# Altium integrated library Xilinx Spartan-3 FPGA.IntLib: 1115 symbols (part 2 of 7)
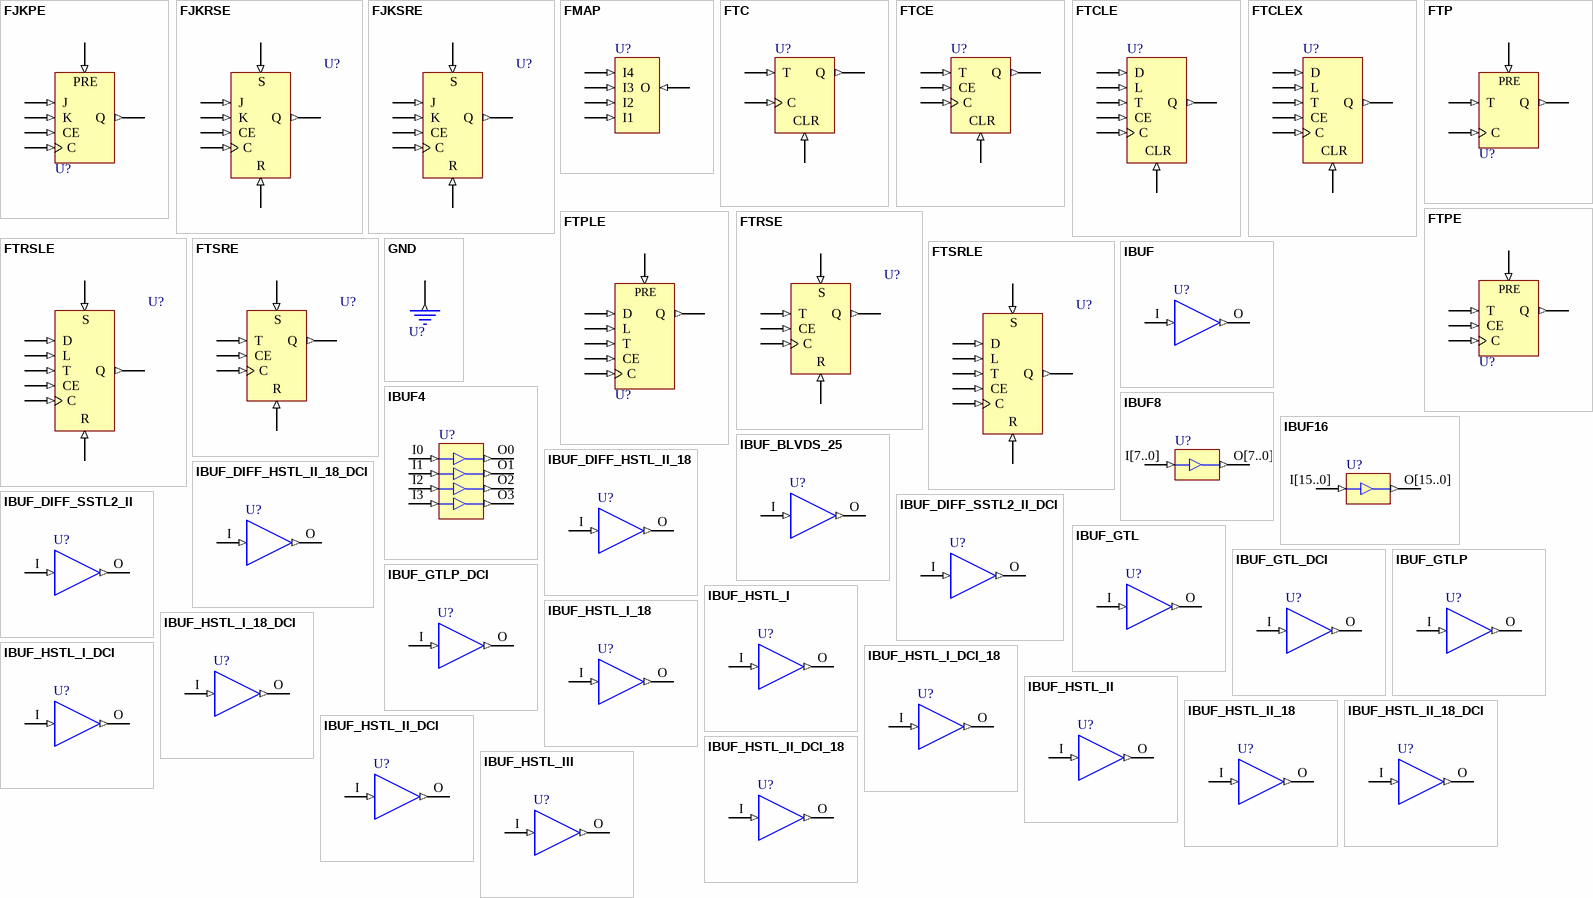
[diagram p29: symbols FJKPE to IBUF_HSTL_III]

## IBUF_DIFF_SSTL2_II_DCI
designator U?
Single Input Buffer with Selectable I/O Interface; FPGAVendor: Xilinx; Published: 15-Sep-2008; Publisher: Altium Limited; HelpURL: http://www.xilinx.com/support/documentation/data_sheets/ds099.pdf
pins: I (in), O (out)

## IBUF_GTL
designator U?
Single Input Buffer with GTL I/O Interface; FPGAVendor: Xilinx; Published: 15-Sep-2003; Publisher: Altium Limited; HelpURL: http://toolbox.xilinx.com/docsan/xilinx7/books/docs/lib/lib.pdf
pins: I (in), O (out)

## IBUF_GTL_DCI
designator U?
Single Input Buffer with GTL_DCI I/O Interface; FPGAVendor: Xilinx; Published: 15-Sep-2003; Publisher: Altium Limited; HelpURL: http://toolbox.xilinx.com/docsan/xilinx7/books/docs/lib/lib.pdf
pins: I (in), O (out)

## IBUF_GTLP
designator U?
Single Input Buffer with GTLP I/O Interface; FPGAVendor: Xilinx; Published: 15-Sep-2003; Publisher: Altium Limited; HelpURL: http://toolbox.xilinx.com/docsan/xilinx7/books/docs/lib/lib.pdf
pins: I (in), O (out)

## IBUF_GTLP_DCI
designator U?
Single Input Buffer with GTLP_DCI I/O Interface; FPGAVendor: Xilinx; Published: 15-Sep-2003; Publisher: Altium Limited; HelpURL: http://toolbox.xilinx.com/docsan/xilinx7/books/docs/lib/lib.pdf
pins: I (in), O (out)

## IBUF_HSTL_I
designator U?
Single Input Buffer with HSTL_I I/O Interface; FPGAVendor: Xilinx; Published: 15-Sep-2003; Publisher: Altium Limited; HelpURL: http://toolbox.xilinx.com/docsan/xilinx7/books/docs/lib/lib.pdf
pins: I (in), O (out)

## IBUF_HSTL_I_18
designator U?
Single Input Buffer with HSTL_I_18 I/O Interface; FPGAVendor: Xilinx; Published: 15-Sep-2003; Publisher: Altium Limited; HelpURL: http://toolbox.xilinx.com/docsan/xilinx7/books/docs/lib/lib.pdf
pins: I (in), O (out)

## IBUF_HSTL_I_18_DCI
designator U?
Single Input Buffer with Selectable I/O Interface; FPGAVendor: Xilinx; Published: 15-Sep-2008; Publisher: Altium Limited; HelpURL: http://www.xilinx.com/support/documentation/data_sheets/ds099.pdf
pins: I (in), O (out)

## IBUF_HSTL_I_DCI
designator U?
Single Input Buffer with HSTL_I_DCI I/O Interface; FPGAVendor: Xilinx; Published: 15-Sep-2003; Publisher: Altium Limited; HelpURL: http://toolbox.xilinx.com/docsan/xilinx7/books/docs/lib/lib.pdf
pins: I (in), O (out)

## IBUF_HSTL_I_DCI_18
designator U?
Single Input Buffer with HSTL_I_DCI_18 I/O Interface; FPGAVendor: Xilinx; Published: 15-Sep-2003; Publisher: Altium Limited; HelpURL: http://toolbox.xilinx.com/docsan/xilinx7/books/docs/lib/lib.pdf
pins: I (in), O (out)

## IBUF_HSTL_II
designator U?
Single Input Buffer with HSTL_II I/O Interface; FPGAVendor: Xilinx; Published: 15-Sep-2003; Publisher: Altium Limited; HelpURL: http://toolbox.xilinx.com/docsan/xilinx7/books/docs/lib/lib.pdf
pins: I (in), O (out)

## IBUF_HSTL_II_18
designator U?
Single Input Buffer with HSTL_II_18 I/O Interface; FPGAVendor: Xilinx; Published: 15-Sep-2003; Publisher: Altium Limited; HelpURL: http://toolbox.xilinx.com/docsan/xilinx7/books/docs/lib/lib.pdf
pins: I (in), O (out)

## IBUF_HSTL_II_18_DCI
designator U?
Single Input Buffer with Selectable I/O Interface; FPGAVendor: Xilinx; Published: 15-Sep-2008; Publisher: Altium Limited; HelpURL: http://www.xilinx.com/support/documentation/data_sheets/ds099.pdf
pins: I (in), O (out)

## IBUF_HSTL_II_DCI
designator U?
Single Input Buffer with HSTL_II_DCI I/O Interface; FPGAVendor: Xilinx; Published: 15-Sep-2003; Publisher: Altium Limited; HelpURL: http://toolbox.xilinx.com/docsan/xilinx7/books/docs/lib/lib.pdf
pins: I (in), O (out)

## IBUF_HSTL_II_DCI_18
designator U?
Single Input Buffer with HSTL_II_DCI_18 I/O Interface; FPGAVendor: Xilinx; Published: 15-Sep-2003; Publisher: Altium Limited; HelpURL: http://toolbox.xilinx.com/docsan/xilinx7/books/docs/lib/lib.pdf
pins: I (in), O (out)

## IBUF_HSTL_III
designator U?
Single Input Buffer with HSTL_III I/O Interface; FPGAVendor: Xilinx; Published: 15-Sep-2003; Publisher: Altium Limited; HelpURL: http://toolbox.xilinx.com/docsan/xilinx7/books/docs/lib/lib.pdf
pins: I (in), O (out)

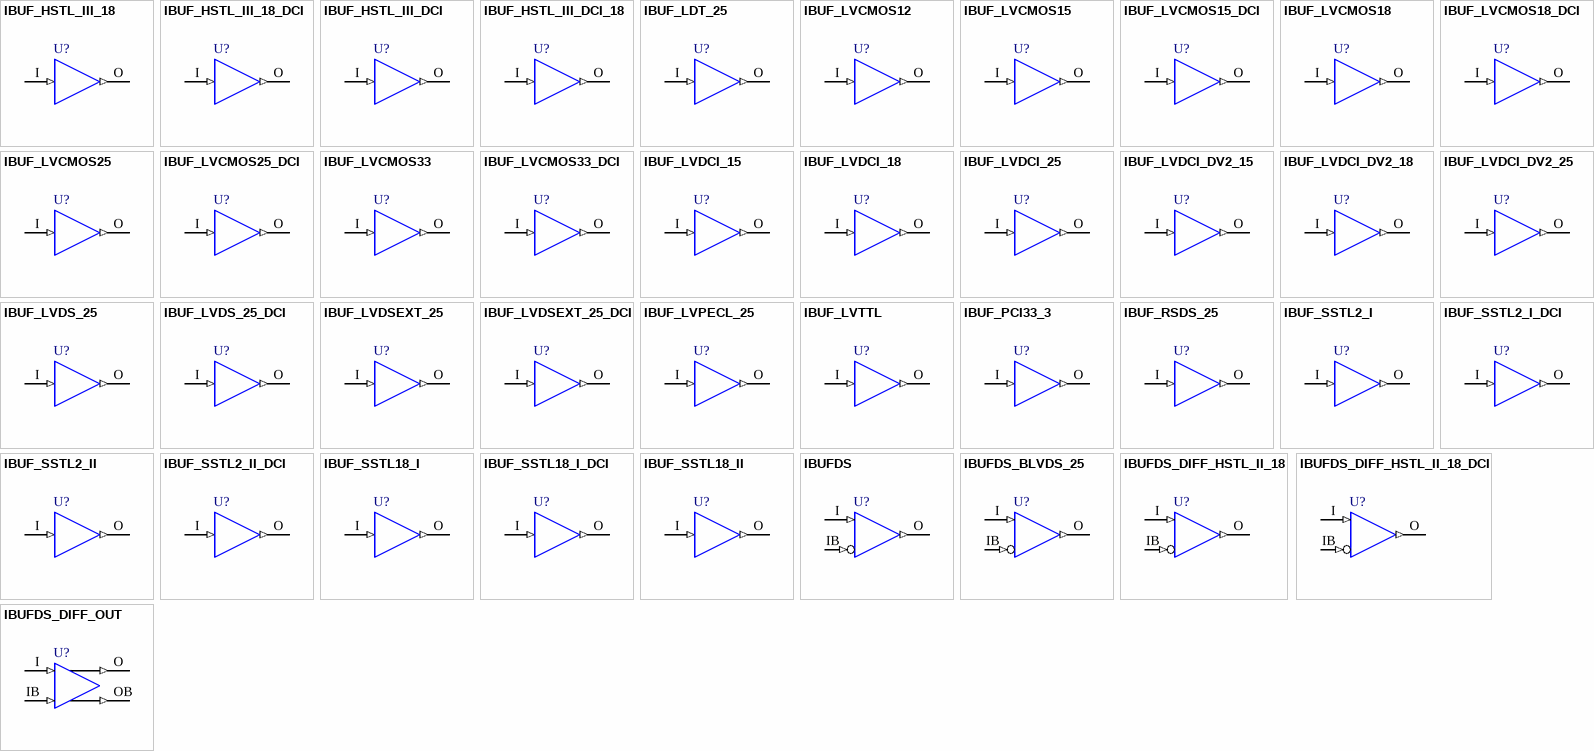
[diagram p5: symbols IBUF_HSTL_III_18 to IBUFDS_DIFF_OUT]

## IBUF_HSTL_III_18
designator U?
Single Input Buffer with HSTL_III_18 I/O Interface; FPGAVendor: Xilinx; Published: 15-Sep-2003; Publisher: Altium Limited; HelpURL: http://toolbox.xilinx.com/docsan/xilinx7/books/docs/lib/lib.pdf
pins: I (in), O (out)

## IBUF_HSTL_III_18_DCI
designator U?
Single Input Buffer with Selectable I/O Interface; FPGAVendor: Xilinx; Published: 15-Sep-2008; Publisher: Altium Limited; HelpURL: http://www.xilinx.com/support/documentation/data_sheets/ds099.pdf
pins: I (in), O (out)

## IBUF_HSTL_III_DCI
designator U?
Single Input Buffer with HSTL_III_DCI I/O Interface; FPGAVendor: Xilinx; Published: 15-Sep-2003; Publisher: Altium Limited; HelpURL: http://toolbox.xilinx.com/docsan/xilinx7/books/docs/lib/lib.pdf
pins: I (in), O (out)

## IBUF_HSTL_III_DCI_18
designator U?
Single Input Buffer with HSTL_III_DCI_18 I/O Interface; FPGAVendor: Xilinx; Published: 15-Sep-2003; Publisher: Altium Limited; HelpURL: http://toolbox.xilinx.com/docsan/xilinx7/books/docs/lib/lib.pdf
pins: I (in), O (out)

## IBUF_LDT_25
designator U?
Single Input Buffer with Selectable I/O Interface; FPGAVendor: Xilinx; Published: 15-Sep-2008; Publisher: Altium Limited; HelpURL: http://www.xilinx.com/support/documentation/data_sheets/ds099.pdf
pins: I (in), O (out)

## IBUF_LVCMOS12
designator U?
Single Input Buffer with LVCMOS12 I/O Interface; FPGAVendor: Xilinx; Published: 15-Sep-2003; Publisher: Altium Limited; HelpURL: http://toolbox.xilinx.com/docsan/xilinx7/books/docs/lib/lib.pdf
pins: I (in), O (out)

## IBUF_LVCMOS15
designator U?
Single Input Buffer with LVCMOS15 I/O Interface; FPGAVendor: Xilinx; Published: 15-Sep-2003; Publisher: Altium Limited; HelpURL: http://toolbox.xilinx.com/docsan/xilinx7/books/docs/lib/lib.pdf
pins: I (in), O (out)

## IBUF_LVCMOS15_DCI
designator U?
Single Input Buffer with Selectable I/O Interface; FPGAVendor: Xilinx; Published: 15-Sep-2008; Publisher: Altium Limited; HelpURL: http://www.xilinx.com/support/documentation/data_sheets/ds099.pdf
pins: I (in), O (out)

## IBUF_LVCMOS18
designator U?
Single Input Buffer with LVCMOS18 I/O Interface; FPGAVendor: Xilinx; Published: 15-Sep-2003; Publisher: Altium Limited; HelpURL: http://toolbox.xilinx.com/docsan/xilinx7/books/docs/lib/lib.pdf
pins: I (in), O (out)

## IBUF_LVCMOS18_DCI
designator U?
Single Input Buffer with Selectable I/O Interface; FPGAVendor: Xilinx; Published: 15-Sep-2008; Publisher: Altium Limited; HelpURL: http://www.xilinx.com/support/documentation/data_sheets/ds099.pdf
pins: I (in), O (out)

## IBUF_LVCMOS25
designator U?
Single Input Buffer with LVCMOS25 I/O Interface; FPGAVendor: Xilinx; Published: 15-Sep-2003; Publisher: Altium Limited; HelpURL: http://toolbox.xilinx.com/docsan/xilinx7/books/docs/lib/lib.pdf
pins: I (in), O (out)

## IBUF_LVCMOS25_DCI
designator U?
Single Input Buffer with Selectable I/O Interface; FPGAVendor: Xilinx; Published: 15-Sep-2008; Publisher: Altium Limited; HelpURL: http://www.xilinx.com/support/documentation/data_sheets/ds099.pdf
pins: I (in), O (out)

## IBUF_LVCMOS33
designator U?
Single Input Buffer with Selectable I/O Interface; FPGAVendor: Xilinx; Published: 15-Sep-2008; Publisher: Altium Limited; HelpURL: http://www.xilinx.com/support/documentation/data_sheets/ds099.pdf
pins: I (in), O (out)

## IBUF_LVCMOS33_DCI
designator U?
Single Input Buffer with Selectable I/O Interface; FPGAVendor: Xilinx; Published: 15-Sep-2008; Publisher: Altium Limited; HelpURL: http://www.xilinx.com/support/documentation/data_sheets/ds099.pdf
pins: I (in), O (out)

## IBUF_LVDCI_15
designator U?
Single Input Buffer with LVDCI_15 I/O Interface; FPGAVendor: Xilinx; Published: 15-Sep-2003; Publisher: Altium Limited; HelpURL: http://toolbox.xilinx.com/docsan/xilinx7/books/docs/lib/lib.pdf
pins: I (in), O (out)

## IBUF_LVDCI_18
designator U?
Single Input Buffer with LVDCI_18 I/O Interface; FPGAVendor: Xilinx; Published: 15-Sep-2003; Publisher: Altium Limited; HelpURL: http://toolbox.xilinx.com/docsan/xilinx7/books/docs/lib/lib.pdf
pins: I (in), O (out)

## IBUF_LVDCI_25
designator U?
Single Input Buffer with LVDCI_25 I/O Interface; FPGAVendor: Xilinx; Published: 15-Sep-2003; Publisher: Altium Limited; HelpURL: http://toolbox.xilinx.com/docsan/xilinx7/books/docs/lib/lib.pdf
pins: I (in), O (out)

## IBUF_LVDCI_DV2_15
designator U?
Single Input Buffer with LVDCI_DV2_15 I/O Interface; FPGAVendor: Xilinx; Published: 15-Sep-2003; Publisher: Altium Limited; HelpURL: http://toolbox.xilinx.com/docsan/xilinx7/books/docs/lib/lib.pdf
pins: I (in), O (out)

## IBUF_LVDCI_DV2_18
designator U?
Single Input Buffer with LVDCI_DV2_18 I/O Interface; FPGAVendor: Xilinx; Published: 15-Sep-2003; Publisher: Altium Limited; HelpURL: http://toolbox.xilinx.com/docsan/xilinx7/books/docs/lib/lib.pdf
pins: I (in), O (out)

## IBUF_LVDCI_DV2_25
designator U?
Single Input Buffer with LVDCI_DV2_25 I/O Interface; FPGAVendor: Xilinx; Published: 15-Sep-2003; Publisher: Altium Limited; HelpURL: http://toolbox.xilinx.com/docsan/xilinx7/books/docs/lib/lib.pdf
pins: I (in), O (out)

## IBUF_LVDS_25
designator U?
Single Input Buffer with Selectable I/O Interface; FPGAVendor: Xilinx; Published: 15-Sep-2008; Publisher: Altium Limited; HelpURL: http://www.xilinx.com/support/documentation/data_sheets/ds099.pdf
pins: I (in), O (out)

## IBUF_LVDS_25_DCI
designator U?
Single Input Buffer with Selectable I/O Interface; FPGAVendor: Xilinx; Published: 15-Sep-2008; Publisher: Altium Limited; HelpURL: http://www.xilinx.com/support/documentation/data_sheets/ds099.pdf
pins: I (in), O (out)

## IBUF_LVDSEXT_25
designator U?
Single Input Buffer with Selectable I/O Interface; FPGAVendor: Xilinx; Published: 15-Sep-2008; Publisher: Altium Limited; HelpURL: http://www.xilinx.com/support/documentation/data_sheets/ds099.pdf
pins: I (in), O (out)

## IBUF_LVDSEXT_25_DCI
designator U?
Single Input Buffer with Selectable I/O Interface; FPGAVendor: Xilinx; Published: 15-Sep-2008; Publisher: Altium Limited; HelpURL: http://www.xilinx.com/support/documentation/data_sheets/ds099.pdf
pins: I (in), O (out)

## IBUF_LVPECL_25
designator U?
Single Input Buffer with Selectable I/O Interface; FPGAVendor: Xilinx; Published: 15-Sep-2008; Publisher: Altium Limited; HelpURL: http://www.xilinx.com/support/documentation/data_sheets/ds099.pdf
pins: I (in), O (out)

## IBUF_LVTTL
designator U?
Single Input Buffer with Selectable I/O Interface; FPGAVendor: Xilinx; Published: 15-Sep-2008; Publisher: Altium Limited; HelpURL: http://www.xilinx.com/support/documentation/data_sheets/ds099.pdf
pins: I (in), O (out)

## IBUF_PCI33_3
designator U?
Single Input Buffer with Selectable I/O Interface; FPGAVendor: Xilinx; Published: 15-Sep-2008; Publisher: Altium Limited; HelpURL: http://www.xilinx.com/support/documentation/data_sheets/ds099.pdf
pins: I (in), O (out)

## IBUF_RSDS_25
designator U?
Single Input Buffer with Selectable I/O Interface; FPGAVendor: Xilinx; Published: 15-Sep-2008; Publisher: Altium Limited; HelpURL: http://www.xilinx.com/support/documentation/data_sheets/ds099.pdf
pins: I (in), O (out)

## IBUF_SSTL2_I
designator U?
Single Input Buffer with SSTL2_I I/O Interface; FPGAVendor: Xilinx; Published: 15-Sep-2003; Publisher: Altium Limited; HelpURL: http://toolbox.xilinx.com/docsan/xilinx7/books/docs/lib/lib.pdf
pins: I (in), O (out)

## IBUF_SSTL2_I_DCI
designator U?
Single Input Buffer with SSTL2_I_DCI I/O Interface; FPGAVendor: Xilinx; Published: 15-Sep-2003; Publisher: Altium Limited; HelpURL: http://toolbox.xilinx.com/docsan/xilinx7/books/docs/lib/lib.pdf
pins: I (in), O (out)

## IBUF_SSTL2_II
designator U?
Single Input Buffer with SSTL2_II I/O Interface; FPGAVendor: Xilinx; Published: 15-Sep-2003; Publisher: Altium Limited; HelpURL: http://toolbox.xilinx.com/docsan/xilinx7/books/docs/lib/lib.pdf
pins: I (in), O (out)

## IBUF_SSTL2_II_DCI
designator U?
Single Input Buffer with SSTL2_II_DCI I/O Interface; FPGAVendor: Xilinx; Published: 15-Sep-2003; Publisher: Altium Limited; HelpURL: http://toolbox.xilinx.com/docsan/xilinx7/books/docs/lib/lib.pdf
pins: I (in), O (out)

## IBUF_SSTL18_I
designator U?
Single Input Buffer with SSTL18_I I/O Interface; FPGAVendor: Xilinx; Published: 15-Sep-2003; Publisher: Altium Limited; HelpURL: http://toolbox.xilinx.com/docsan/xilinx7/books/docs/lib/lib.pdf
pins: I (in), O (out)

## IBUF_SSTL18_I_DCI
designator U?
Single Input Buffer with SSTL18_I_DCI I/O Interface; FPGAVendor: Xilinx; Published: 15-Sep-2003; Publisher: Altium Limited; HelpURL: http://toolbox.xilinx.com/docsan/xilinx7/books/docs/lib/lib.pdf
pins: I (in), O (out)

## IBUF_SSTL18_II
designator U?
Single Input Buffer with SSTL18_II I/O Interface; FPGAVendor: Xilinx; Published: 15-Sep-2003; Publisher: Altium Limited; HelpURL: http://toolbox.xilinx.com/docsan/xilinx7/books/docs/lib/lib.pdf
pins: I (in), O (out)

## IBUFDS
designator U?
Differential Signaling Input Buffer with Selectable I/O Interface; FPGAVendor: Xilinx; Published: 20-May-2005; Publisher: Altium Limited; HelpURL: http://toolbox.xilinx.com/docsan/xilinx7/books/docs/lib/lib.pdf
pins: I (in), IB (in), O (out)

## IBUFDS_BLVDS_25
designator U?
Differential Signaling Input Buffer with Selectable I/O Interface; FPGAVendor: Xilinx; Published: 15-Sep-2008; Publisher: Altium Limited; HelpURL: http://www.xilinx.com/support/documentation/data_sheets/ds099.pdf
pins: I (in), IB (in), O (out)

## IBUFDS_DIFF_HSTL_II_18
designator U?
Differential Signaling Input Buffer with Selectable I/O Interface; FPGAVendor: Xilinx; Published: 15-Sep-2008; Publisher: Altium Limited; HelpURL: http://www.xilinx.com/support/documentation/data_sheets/ds099.pdf
pins: I (in), IB (in), O (out)

## IBUFDS_DIFF_HSTL_II_18_DCI
designator U?
Differential Signaling Input Buffer with Selectable I/O Interface; FPGAVendor: Xilinx; Published: 15-Sep-2008; Publisher: Altium Limited; HelpURL: http://www.xilinx.com/support/documentation/data_sheets/ds099.pdf
pins: I (in), IB (in), O (out)

## IBUFDS_DIFF_OUT
designator U?
Differential I/O Input Buffer with Differential Outputs; FPGAVendor: Xilinx; Published: 20-May-2005; Publisher: Altium Limited; HelpURL: http://toolbox.xilinx.com/docsan/xilinx7/books/docs/lib/lib.pdf
pins: I (in), IB (in), O (out), OB (out)

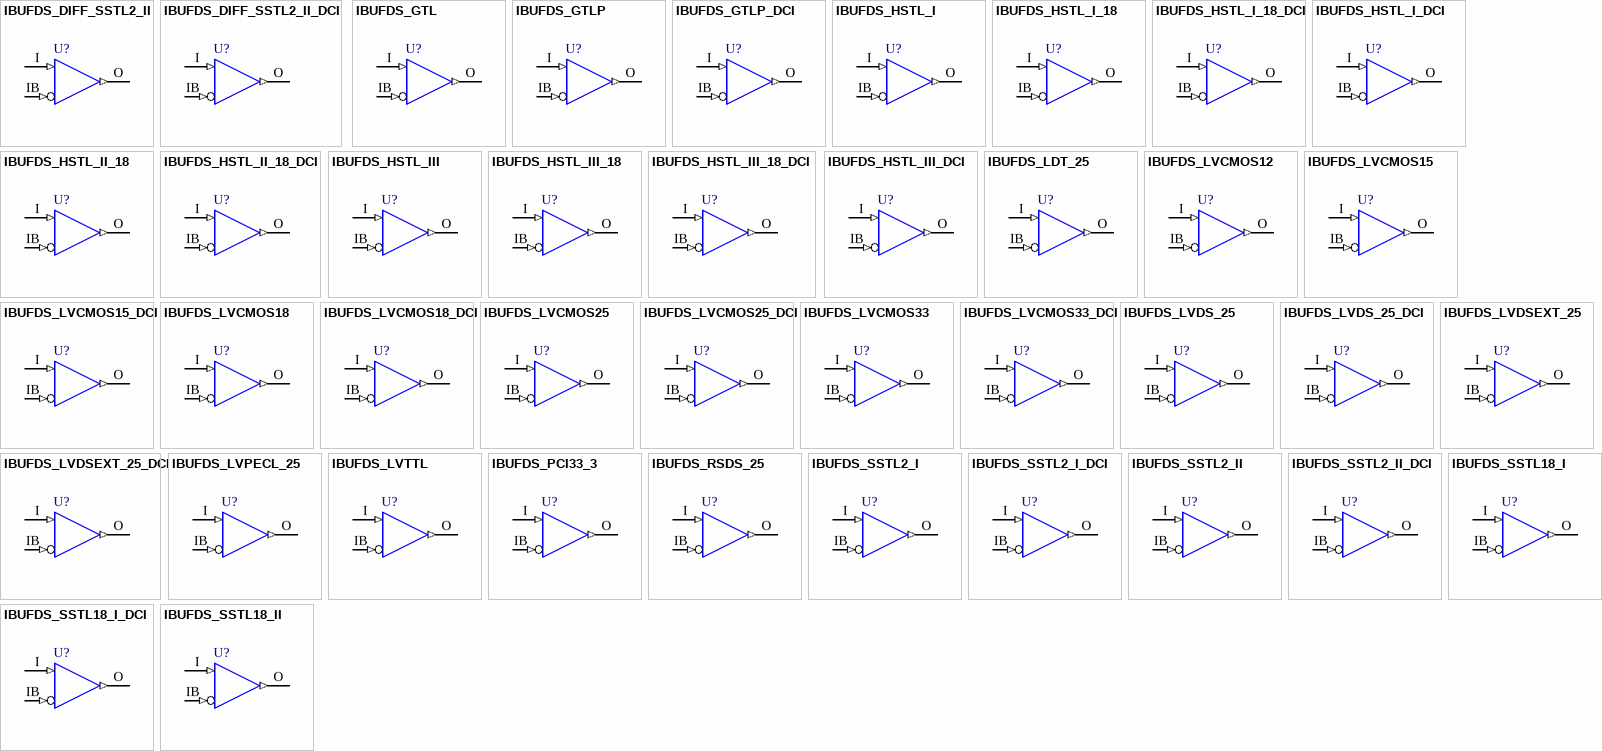
[diagram p6: symbols IBUFDS_DIFF_SSTL2_II to IBUFDS_SSTL18_II]

## IBUFDS_DIFF_SSTL2_II
designator U?
Differential Signaling Input Buffer with Selectable I/O Interface; FPGAVendor: Xilinx; Published: 15-Sep-2008; Publisher: Altium Limited; HelpURL: http://www.xilinx.com/support/documentation/data_sheets/ds099.pdf
pins: I (in), IB (in), O (out)

## IBUFDS_DIFF_SSTL2_II_DCI
designator U?
Differential Signaling Input Buffer with Selectable I/O Interface; FPGAVendor: Xilinx; Published: 15-Sep-2008; Publisher: Altium Limited; HelpURL: http://www.xilinx.com/support/documentation/data_sheets/ds099.pdf
pins: I (in), IB (in), O (out)

## IBUFDS_GTL
designator U?
Differential Signaling Input Buffer with Selectable I/O Interface; FPGAVendor: Xilinx; Published: 15-Sep-2008; Publisher: Altium Limited; HelpURL: http://www.xilinx.com/support/documentation/data_sheets/ds099.pdf
pins: I (in), IB (in), O (out)

## IBUFDS_GTLP
designator U?
Differential Signaling Input Buffer with Selectable I/O Interface; FPGAVendor: Xilinx; Published: 15-Sep-2008; Publisher: Altium Limited; HelpURL: http://www.xilinx.com/support/documentation/data_sheets/ds099.pdf
pins: I (in), IB (in), O (out)

## IBUFDS_GTLP_DCI
designator U?
Differential Signaling Input Buffer with Selectable I/O Interface; FPGAVendor: Xilinx; Published: 15-Sep-2008; Publisher: Altium Limited; HelpURL: http://www.xilinx.com/support/documentation/data_sheets/ds099.pdf
pins: I (in), IB (in), O (out)

## IBUFDS_HSTL_I
designator U?
Differential Signaling Input Buffer with Selectable I/O Interface; FPGAVendor: Xilinx; Published: 15-Sep-2008; Publisher: Altium Limited; HelpURL: http://www.xilinx.com/support/documentation/data_sheets/ds099.pdf
pins: I (in), IB (in), O (out)

## IBUFDS_HSTL_I_18
designator U?
Differential Signaling Input Buffer with Selectable I/O Interface; FPGAVendor: Xilinx; Published: 15-Sep-2008; Publisher: Altium Limited; HelpURL: http://www.xilinx.com/support/documentation/data_sheets/ds099.pdf
pins: I (in), IB (in), O (out)

## IBUFDS_HSTL_I_18_DCI
designator U?
Differential Signaling Input Buffer with Selectable I/O Interface; FPGAVendor: Xilinx; Published: 15-Sep-2008; Publisher: Altium Limited; HelpURL: http://www.xilinx.com/support/documentation/data_sheets/ds099.pdf
pins: I (in), IB (in), O (out)

## IBUFDS_HSTL_I_DCI
designator U?
Differential Signaling Input Buffer with Selectable I/O Interface; FPGAVendor: Xilinx; Published: 15-Sep-2008; Publisher: Altium Limited; HelpURL: http://www.xilinx.com/support/documentation/data_sheets/ds099.pdf
pins: I (in), IB (in), O (out)

## IBUFDS_HSTL_II_18
designator U?
Differential Signaling Input Buffer with Selectable I/O Interface; FPGAVendor: Xilinx; Published: 15-Sep-2008; Publisher: Altium Limited; HelpURL: http://www.xilinx.com/support/documentation/data_sheets/ds099.pdf
pins: I (in), IB (in), O (out)

## IBUFDS_HSTL_II_18_DCI
designator U?
Differential Signaling Input Buffer with Selectable I/O Interface; FPGAVendor: Xilinx; Published: 15-Sep-2008; Publisher: Altium Limited; HelpURL: http://www.xilinx.com/support/documentation/data_sheets/ds099.pdf
pins: I (in), IB (in), O (out)

## IBUFDS_HSTL_III
designator U?
Differential Signaling Input Buffer with Selectable I/O Interface; FPGAVendor: Xilinx; Published: 15-Sep-2008; Publisher: Altium Limited; HelpURL: http://www.xilinx.com/support/documentation/data_sheets/ds099.pdf
pins: I (in), IB (in), O (out)

## IBUFDS_HSTL_III_18
designator U?
Differential Signaling Input Buffer with Selectable I/O Interface; FPGAVendor: Xilinx; Published: 15-Sep-2008; Publisher: Altium Limited; HelpURL: http://www.xilinx.com/support/documentation/data_sheets/ds099.pdf
pins: I (in), IB (in), O (out)

## IBUFDS_HSTL_III_18_DCI
designator U?
Differential Signaling Input Buffer with Selectable I/O Interface; FPGAVendor: Xilinx; Published: 15-Sep-2008; Publisher: Altium Limited; HelpURL: http://www.xilinx.com/support/documentation/data_sheets/ds099.pdf
pins: I (in), IB (in), O (out)

## IBUFDS_HSTL_III_DCI
designator U?
Differential Signaling Input Buffer with Selectable I/O Interface; FPGAVendor: Xilinx; Published: 15-Sep-2008; Publisher: Altium Limited; HelpURL: http://www.xilinx.com/support/documentation/data_sheets/ds099.pdf
pins: I (in), IB (in), O (out)

## IBUFDS_LDT_25
designator U?
Differential Signaling Input Buffer with LDT_25 I/O Interface; FPGAVendor: Xilinx; Published: 15-Sep-2003; Publisher: Altium Limited; HelpURL: http://toolbox.xilinx.com/docsan/xilinx7/books/docs/lib/lib.pdf
pins: I (in), IB (in), O (out)

## IBUFDS_LVCMOS12
designator U?
Differential Signaling Input Buffer with Selectable I/O Interface; FPGAVendor: Xilinx; Published: 15-Sep-2008; Publisher: Altium Limited; HelpURL: http://www.xilinx.com/support/documentation/data_sheets/ds099.pdf
pins: I (in), IB (in), O (out)

## IBUFDS_LVCMOS15
designator U?
Differential Signaling Input Buffer with Selectable I/O Interface; FPGAVendor: Xilinx; Published: 15-Sep-2008; Publisher: Altium Limited; HelpURL: http://www.xilinx.com/support/documentation/data_sheets/ds099.pdf
pins: I (in), IB (in), O (out)

## IBUFDS_LVCMOS15_DCI
designator U?
Differential Signaling Input Buffer with Selectable I/O Interface; FPGAVendor: Xilinx; Published: 15-Sep-2008; Publisher: Altium Limited; HelpURL: http://www.xilinx.com/support/documentation/data_sheets/ds099.pdf
pins: I (in), IB (in), O (out)

## IBUFDS_LVCMOS18
designator U?
Differential Signaling Input Buffer with Selectable I/O Interface; FPGAVendor: Xilinx; Published: 15-Sep-2008; Publisher: Altium Limited; HelpURL: http://www.xilinx.com/support/documentation/data_sheets/ds099.pdf
pins: I (in), IB (in), O (out)

## IBUFDS_LVCMOS18_DCI
designator U?
Differential Signaling Input Buffer with Selectable I/O Interface; FPGAVendor: Xilinx; Published: 15-Sep-2008; Publisher: Altium Limited; HelpURL: http://www.xilinx.com/support/documentation/data_sheets/ds099.pdf
pins: I (in), IB (in), O (out)

## IBUFDS_LVCMOS25
designator U?
Differential Signaling Input Buffer with Selectable I/O Interface; FPGAVendor: Xilinx; Published: 15-Sep-2008; Publisher: Altium Limited; HelpURL: http://www.xilinx.com/support/documentation/data_sheets/ds099.pdf
pins: I (in), IB (in), O (out)

## IBUFDS_LVCMOS25_DCI
designator U?
Differential Signaling Input Buffer with Selectable I/O Interface; FPGAVendor: Xilinx; Published: 15-Sep-2008; Publisher: Altium Limited; HelpURL: http://www.xilinx.com/support/documentation/data_sheets/ds099.pdf
pins: I (in), IB (in), O (out)

## IBUFDS_LVCMOS33
designator U?
Differential Signaling Input Buffer with Selectable I/O Interface; FPGAVendor: Xilinx; Published: 15-Sep-2008; Publisher: Altium Limited; HelpURL: http://www.xilinx.com/support/documentation/data_sheets/ds099.pdf
pins: I (in), IB (in), O (out)

## IBUFDS_LVCMOS33_DCI
designator U?
Differential Signaling Input Buffer with Selectable I/O Interface; FPGAVendor: Xilinx; Published: 15-Sep-2008; Publisher: Altium Limited; HelpURL: http://www.xilinx.com/support/documentation/data_sheets/ds099.pdf
pins: I (in), IB (in), O (out)

## IBUFDS_LVDS_25
designator U?
Differential Signaling Input Buffer with LVDS_25 I/O Interface; FPGAVendor: Xilinx; Published: 15-Sep-2003; Publisher: Altium Limited; HelpURL: http://toolbox.xilinx.com/docsan/xilinx7/books/docs/lib/lib.pdf
pins: I (in), IB (in), O (out)

## IBUFDS_LVDS_25_DCI
designator U?
Differential Signaling Input Buffer with LVDS_25_DCI I/O Interface; FPGAVendor: Xilinx; Published: 15-Sep-2003; Publisher: Altium Limited; HelpURL: http://toolbox.xilinx.com/docsan/xilinx7/books/docs/lib/lib.pdf
pins: I (in), IB (in), O (out)

## IBUFDS_LVDSEXT_25
designator U?
Differential Signaling Input Buffer with LVDSEXT_25 I/O Interface; FPGAVendor: Xilinx; Published: 15-Sep-2003; Publisher: Altium Limited; HelpURL: http://toolbox.xilinx.com/docsan/xilinx7/books/docs/lib/lib.pdf
pins: I (in), IB (in), O (out)

## IBUFDS_LVDSEXT_25_DCI
designator U?
Differential Signaling Input Buffer with LVDSEXT_25_DCI I/O Interface; FPGAVendor: Xilinx; Published: 15-Sep-2003; Publisher: Altium Limited; HelpURL: http://toolbox.xilinx.com/docsan/xilinx7/books/docs/lib/lib.pdf
pins: I (in), IB (in), O (out)

## IBUFDS_LVPECL_25
designator U?
Differential Signaling Input Buffer with Selectable I/O Interface; FPGAVendor: Xilinx; Published: 15-Sep-2008; Publisher: Altium Limited; HelpURL: http://www.xilinx.com/support/documentation/data_sheets/ds099.pdf
pins: I (in), IB (in), O (out)

## IBUFDS_LVTTL
designator U?
Differential Signaling Input Buffer with Selectable I/O Interface; FPGAVendor: Xilinx; Published: 15-Sep-2008; Publisher: Altium Limited; HelpURL: http://www.xilinx.com/support/documentation/data_sheets/ds099.pdf
pins: I (in), IB (in), O (out)

## IBUFDS_PCI33_3
designator U?
Differential Signaling Input Buffer with Selectable I/O Interface; FPGAVendor: Xilinx; Published: 15-Sep-2008; Publisher: Altium Limited; HelpURL: http://www.xilinx.com/support/documentation/data_sheets/ds099.pdf
pins: I (in), IB (in), O (out)

## IBUFDS_RSDS_25
designator U?
Differential Signaling Input Buffer with Selectable I/O Interface; FPGAVendor: Xilinx; Published: 15-Sep-2008; Publisher: Altium Limited; HelpURL: http://www.xilinx.com/support/documentation/data_sheets/ds099.pdf
pins: I (in), IB (in), O (out)

## IBUFDS_SSTL2_I
designator U?
Differential Signaling Input Buffer with Selectable I/O Interface; FPGAVendor: Xilinx; Published: 15-Sep-2008; Publisher: Altium Limited; HelpURL: http://www.xilinx.com/support/documentation/data_sheets/ds099.pdf
pins: I (in), IB (in), O (out)

## IBUFDS_SSTL2_I_DCI
designator U?
Differential Signaling Input Buffer with Selectable I/O Interface; FPGAVendor: Xilinx; Published: 15-Sep-2008; Publisher: Altium Limited; HelpURL: http://www.xilinx.com/support/documentation/data_sheets/ds099.pdf
pins: I (in), IB (in), O (out)

## IBUFDS_SSTL2_II
designator U?
Differential Signaling Input Buffer with Selectable I/O Interface; FPGAVendor: Xilinx; Published: 15-Sep-2008; Publisher: Altium Limited; HelpURL: http://www.xilinx.com/support/documentation/data_sheets/ds099.pdf
pins: I (in), IB (in), O (out)

## IBUFDS_SSTL2_II_DCI
designator U?
Differential Signaling Input Buffer with Selectable I/O Interface; FPGAVendor: Xilinx; Published: 15-Sep-2008; Publisher: Altium Limited; HelpURL: http://www.xilinx.com/support/documentation/data_sheets/ds099.pdf
pins: I (in), IB (in), O (out)

## IBUFDS_SSTL18_I
designator U?
Differential Signaling Input Buffer with Selectable I/O Interface; FPGAVendor: Xilinx; Published: 15-Sep-2008; Publisher: Altium Limited; HelpURL: http://www.xilinx.com/support/documentation/data_sheets/ds099.pdf
pins: I (in), IB (in), O (out)

## IBUFDS_SSTL18_I_DCI
designator U?
Differential Signaling Input Buffer with Selectable I/O Interface; FPGAVendor: Xilinx; Published: 15-Sep-2008; Publisher: Altium Limited; HelpURL: http://www.xilinx.com/support/documentation/data_sheets/ds099.pdf
pins: I (in), IB (in), O (out)

## IBUFDS_SSTL18_II
designator U?
Differential Signaling Input Buffer with Selectable I/O Interface; FPGAVendor: Xilinx; Published: 15-Sep-2008; Publisher: Altium Limited; HelpURL: http://www.xilinx.com/support/documentation/data_sheets/ds099.pdf
pins: I (in), IB (in), O (out)

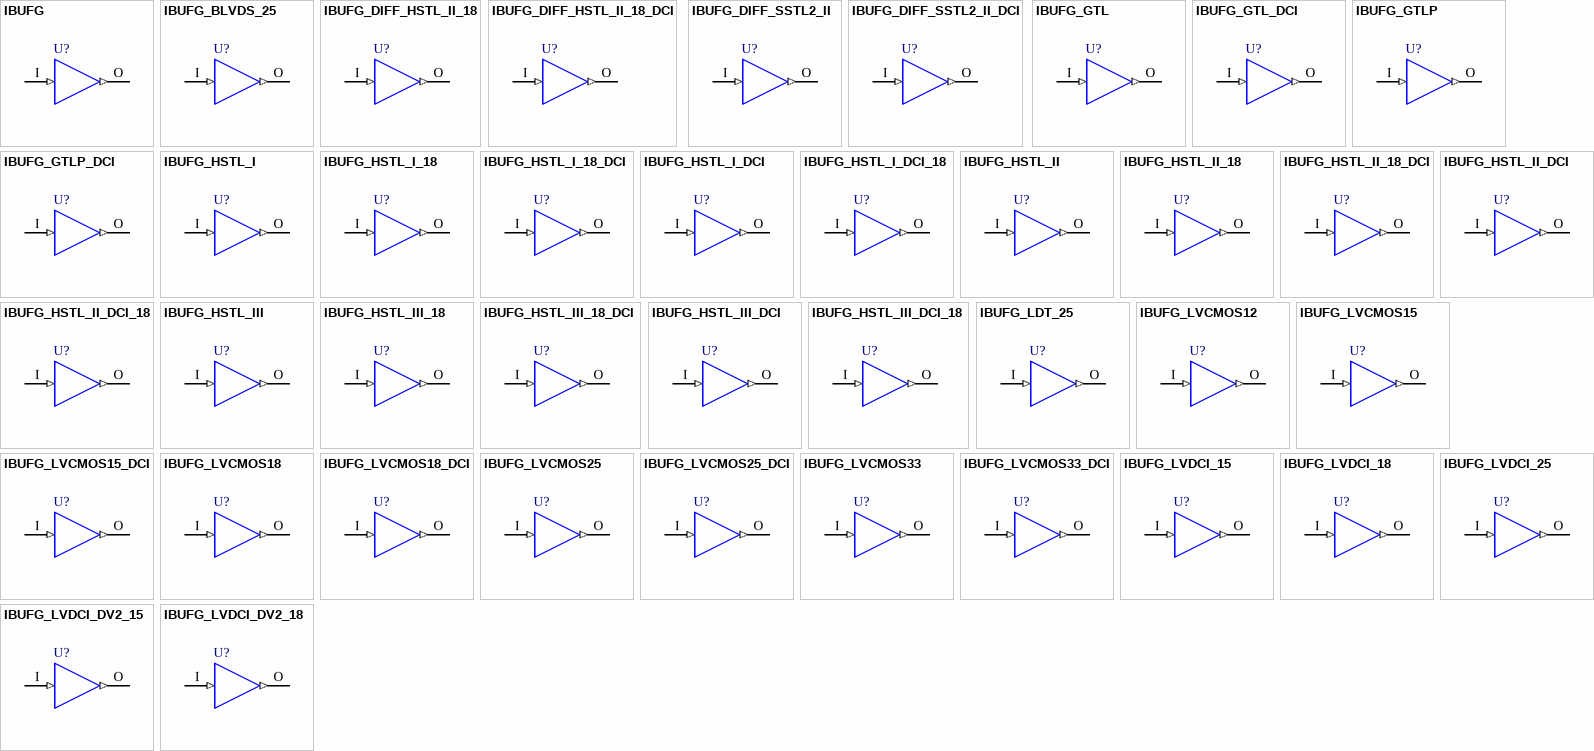
[diagram p7: symbols IBUFG to IBUFG_LVDCI_DV2_18]

## IBUFG
designator U?
Dedicated Input Buffer using the LVTTL standard; FPGAVendor: Xilinx; Published: 15-Sep-2003; Publisher: Altium Limited; HelpURL: http://toolbox.xilinx.com/docsan/xilinx7/books/docs/lib/lib.pdf
pins: I (in), O (out)

## IBUFG_BLVDS_25
designator U?
Dedicated Input Clocl Buffer using the Selectable I/O Interface standard; FPGAVendor: Xilinx; Published: 15-Sep-2008; Publisher: Altium Limited; HelpURL: http://www.xilinx.com/support/documentation/data_sheets/ds099.pdf
pins: I (in), O (out)

## IBUFG_DIFF_HSTL_II_18
designator U?
Dedicated Input Clocl Buffer using the Selectable I/O Interface standard; FPGAVendor: Xilinx; Published: 15-Sep-2008; Publisher: Altium Limited; HelpURL: http://www.xilinx.com/support/documentation/data_sheets/ds099.pdf
pins: I (in), O (out)

## IBUFG_DIFF_HSTL_II_18_DCI
designator U?
Dedicated Input Clocl Buffer using the Selectable I/O Interface standard; FPGAVendor: Xilinx; Published: 15-Sep-2008; Publisher: Altium Limited; HelpURL: http://www.xilinx.com/support/documentation/data_sheets/ds099.pdf
pins: I (in), O (out)

## IBUFG_DIFF_SSTL2_II
designator U?
Dedicated Input Clocl Buffer using the Selectable I/O Interface standard; FPGAVendor: Xilinx; Published: 15-Sep-2008; Publisher: Altium Limited; HelpURL: http://www.xilinx.com/support/documentation/data_sheets/ds099.pdf
pins: I (in), O (out)

## IBUFG_DIFF_SSTL2_II_DCI
designator U?
Dedicated Input Clocl Buffer using the Selectable I/O Interface standard; FPGAVendor: Xilinx; Published: 15-Sep-2008; Publisher: Altium Limited; HelpURL: http://www.xilinx.com/support/documentation/data_sheets/ds099.pdf
pins: I (in), O (out)

## IBUFG_GTL
designator U?
Dedicated Input Buffer with GTL I/O Interface; FPGAVendor: Xilinx; Published: 15-Sep-2003; Publisher: Altium Limited; HelpURL: http://toolbox.xilinx.com/docsan/xilinx7/books/docs/lib/lib.pdf
pins: I (in), O (out)

## IBUFG_GTL_DCI
designator U?
Dedicated Input Buffer with GTL_DCI I/O Interface; FPGAVendor: Xilinx; Published: 15-Sep-2003; Publisher: Altium Limited; HelpURL: http://toolbox.xilinx.com/docsan/xilinx7/books/docs/lib/lib.pdf
pins: I (in), O (out)

## IBUFG_GTLP
designator U?
Dedicated Input Buffer with GTLP I/O Interface; FPGAVendor: Xilinx; Published: 15-Sep-2003; Publisher: Altium Limited; HelpURL: http://toolbox.xilinx.com/docsan/xilinx7/books/docs/lib/lib.pdf
pins: I (in), O (out)

## IBUFG_GTLP_DCI
designator U?
Dedicated Input Buffer with GTLP_DCI I/O Interface; FPGAVendor: Xilinx; Published: 15-Sep-2003; Publisher: Altium Limited; HelpURL: http://toolbox.xilinx.com/docsan/xilinx7/books/docs/lib/lib.pdf
pins: I (in), O (out)

## IBUFG_HSTL_I
designator U?
Dedicated Input Buffer with HSTL_I I/O Interface; FPGAVendor: Xilinx; Published: 15-Sep-2003; Publisher: Altium Limited; HelpURL: http://toolbox.xilinx.com/docsan/xilinx7/books/docs/lib/lib.pdf
pins: I (in), O (out)

## IBUFG_HSTL_I_18
designator U?
Dedicated Input Buffer with HSTL_I_18 I/O Interface; FPGAVendor: Xilinx; Published: 15-Sep-2003; Publisher: Altium Limited; HelpURL: http://toolbox.xilinx.com/docsan/xilinx7/books/docs/lib/lib.pdf
pins: I (in), O (out)

## IBUFG_HSTL_I_18_DCI
designator U?
Dedicated Input Clocl Buffer using the Selectable I/O Interface standard; FPGAVendor: Xilinx; Published: 15-Sep-2008; Publisher: Altium Limited; HelpURL: http://www.xilinx.com/support/documentation/data_sheets/ds099.pdf
pins: I (in), O (out)

## IBUFG_HSTL_I_DCI
designator U?
Dedicated Input Buffer with HSTL_I_DCI I/O Interface; FPGAVendor: Xilinx; Published: 15-Sep-2003; Publisher: Altium Limited; HelpURL: http://toolbox.xilinx.com/docsan/xilinx7/books/docs/lib/lib.pdf
pins: I (in), O (out)

## IBUFG_HSTL_I_DCI_18
designator U?
Dedicated Input Buffer with HSTL_I_DCI_18 I/O Interface; FPGAVendor: Xilinx; Published: 15-Sep-2003; Publisher: Altium Limited; HelpURL: http://toolbox.xilinx.com/docsan/xilinx7/books/docs/lib/lib.pdf
pins: I (in), O (out)

## IBUFG_HSTL_II
designator U?
Dedicated Input Buffer with HSTL_II I/O Interface; FPGAVendor: Xilinx; Published: 15-Sep-2003; Publisher: Altium Limited; HelpURL: http://toolbox.xilinx.com/docsan/xilinx7/books/docs/lib/lib.pdf
pins: I (in), O (out)

## IBUFG_HSTL_II_18
designator U?
Dedicated Input Buffer with HSTL_II_18 I/O Interface; FPGAVendor: Xilinx; Published: 15-Sep-2003; Publisher: Altium Limited; HelpURL: http://toolbox.xilinx.com/docsan/xilinx7/books/docs/lib/lib.pdf
pins: I (in), O (out)

## IBUFG_HSTL_II_18_DCI
designator U?
Dedicated Input Clocl Buffer using the Selectable I/O Interface standard; FPGAVendor: Xilinx; Published: 15-Sep-2008; Publisher: Altium Limited; HelpURL: http://www.xilinx.com/support/documentation/data_sheets/ds099.pdf
pins: I (in), O (out)

## IBUFG_HSTL_II_DCI
designator U?
Dedicated Input Buffer with HSTL_II_DCI I/O Interface; FPGAVendor: Xilinx; Published: 15-Sep-2003; Publisher: Altium Limited; HelpURL: http://toolbox.xilinx.com/docsan/xilinx7/books/docs/lib/lib.pdf
pins: I (in), O (out)

## IBUFG_HSTL_II_DCI_18
designator U?
Dedicated Input Buffer with HSTL_II_DCI_18 I/O Interface; FPGAVendor: Xilinx; Published: 15-Sep-2003; Publisher: Altium Limited; HelpURL: http://toolbox.xilinx.com/docsan/xilinx7/books/docs/lib/lib.pdf
pins: I (in), O (out)

## IBUFG_HSTL_III
designator U?
Dedicated Input Buffer with HSTL_III I/O Interface; FPGAVendor: Xilinx; Published: 15-Sep-2003; Publisher: Altium Limited; HelpURL: http://toolbox.xilinx.com/docsan/xilinx7/books/docs/lib/lib.pdf
pins: I (in), O (out)

## IBUFG_HSTL_III_18
designator U?
Dedicated Input Buffer with HSTL_III_18 I/O Interface; FPGAVendor: Xilinx; Published: 15-Sep-2003; Publisher: Altium Limited; HelpURL: http://toolbox.xilinx.com/docsan/xilinx7/books/docs/lib/lib.pdf
pins: I (in), O (out)

## IBUFG_HSTL_III_18_DCI
designator U?
Dedicated Input Clocl Buffer using the Selectable I/O Interface standard; FPGAVendor: Xilinx; Published: 15-Sep-2008; Publisher: Altium Limited; HelpURL: http://www.xilinx.com/support/documentation/data_sheets/ds099.pdf
pins: I (in), O (out)

## IBUFG_HSTL_III_DCI
designator U?
Dedicated Input Buffer with HSTL_III_DCI I/O Interface; FPGAVendor: Xilinx; Published: 15-Sep-2003; Publisher: Altium Limited; HelpURL: http://toolbox.xilinx.com/docsan/xilinx7/books/docs/lib/lib.pdf
pins: I (in), O (out)

## IBUFG_HSTL_III_DCI_18
designator U?
Dedicated Input Buffer with HSTL_III_DCI_18 I/O Interface; FPGAVendor: Xilinx; Published: 15-Sep-2003; Publisher: Altium Limited; HelpURL: http://toolbox.xilinx.com/docsan/xilinx7/books/docs/lib/lib.pdf
pins: I (in), O (out)

## IBUFG_LDT_25
designator U?
Dedicated Input Clocl Buffer using the Selectable I/O Interface standard; FPGAVendor: Xilinx; Published: 15-Sep-2008; Publisher: Altium Limited; HelpURL: http://www.xilinx.com/support/documentation/data_sheets/ds099.pdf
pins: I (in), O (out)

## IBUFG_LVCMOS12
designator U?
Dedicated Input Buffer with LVCMOS12 I/O Interface; FPGAVendor: Xilinx; Published: 15-Sep-2003; Publisher: Altium Limited; HelpURL: http://toolbox.xilinx.com/docsan/xilinx7/books/docs/lib/lib.pdf
pins: I (in), O (out)

## IBUFG_LVCMOS15
designator U?
Dedicated Input Buffer with LVCMOS15 I/O Interface; FPGAVendor: Xilinx; Published: 15-Sep-2003; Publisher: Altium Limited; HelpURL: http://toolbox.xilinx.com/docsan/xilinx7/books/docs/lib/lib.pdf
pins: I (in), O (out)

## IBUFG_LVCMOS15_DCI
designator U?
Dedicated Input Clocl Buffer using the Selectable I/O Interface standard; FPGAVendor: Xilinx; Published: 15-Sep-2008; Publisher: Altium Limited; HelpURL: http://www.xilinx.com/support/documentation/data_sheets/ds099.pdf
pins: I (in), O (out)

## IBUFG_LVCMOS18
designator U?
Dedicated Input Buffer with LVCMOS18 I/O Interface; FPGAVendor: Xilinx; Published: 15-Sep-2003; Publisher: Altium Limited; HelpURL: http://toolbox.xilinx.com/docsan/xilinx7/books/docs/lib/lib.pdf
pins: I (in), O (out)

## IBUFG_LVCMOS18_DCI
designator U?
Dedicated Input Clocl Buffer using the Selectable I/O Interface standard; FPGAVendor: Xilinx; Published: 15-Sep-2008; Publisher: Altium Limited; HelpURL: http://www.xilinx.com/support/documentation/data_sheets/ds099.pdf
pins: I (in), O (out)

## IBUFG_LVCMOS25
designator U?
Dedicated Input Buffer with LVCMOS25 I/O Interface; FPGAVendor: Xilinx; Published: 15-Sep-2003; Publisher: Altium Limited; HelpURL: http://toolbox.xilinx.com/docsan/xilinx7/books/docs/lib/lib.pdf
pins: I (in), O (out)

## IBUFG_LVCMOS25_DCI
designator U?
Dedicated Input Clocl Buffer using the Selectable I/O Interface standard; FPGAVendor: Xilinx; Published: 15-Sep-2008; Publisher: Altium Limited; HelpURL: http://www.xilinx.com/support/documentation/data_sheets/ds099.pdf
pins: I (in), O (out)

## IBUFG_LVCMOS33
designator U?
Dedicated Input Clocl Buffer using the Selectable I/O Interface standard; FPGAVendor: Xilinx; Published: 15-Sep-2008; Publisher: Altium Limited; HelpURL: http://www.xilinx.com/support/documentation/data_sheets/ds099.pdf
pins: I (in), O (out)

## IBUFG_LVCMOS33_DCI
designator U?
Dedicated Input Clocl Buffer using the Selectable I/O Interface standard; FPGAVendor: Xilinx; Published: 15-Sep-2008; Publisher: Altium Limited; HelpURL: http://www.xilinx.com/support/documentation/data_sheets/ds099.pdf
pins: I (in), O (out)

## IBUFG_LVDCI_15
designator U?
Dedicated Input Buffer with LVDCI_15 I/O Interface; FPGAVendor: Xilinx; Published: 15-Sep-2003; Publisher: Altium Limited; HelpURL: http://toolbox.xilinx.com/docsan/xilinx7/books/docs/lib/lib.pdf
pins: I (in), O (out)

## IBUFG_LVDCI_18
designator U?
Dedicated Input Buffer with LVDCI_18 I/O Interface; FPGAVendor: Xilinx; Published: 15-Sep-2003; Publisher: Altium Limited; HelpURL: http://toolbox.xilinx.com/docsan/xilinx7/books/docs/lib/lib.pdf
pins: I (in), O (out)

## IBUFG_LVDCI_25
designator U?
Dedicated Input Buffer with LVDCI_25 I/O Interface; FPGAVendor: Xilinx; Published: 15-Sep-2003; Publisher: Altium Limited; HelpURL: http://toolbox.xilinx.com/docsan/xilinx7/books/docs/lib/lib.pdf
pins: I (in), O (out)

## IBUFG_LVDCI_DV2_15
designator U?
Dedicated Input Buffer with LVDCI_DV2_15 I/O Interface; FPGAVendor: Xilinx; Published: 15-Sep-2003; Publisher: Altium Limited; HelpURL: http://toolbox.xilinx.com/docsan/xilinx7/books/docs/lib/lib.pdf
pins: I (in), O (out)

## IBUFG_LVDCI_DV2_18
designator U?
Dedicated Input Buffer with LVDCI_DV2_18 I/O Interface; FPGAVendor: Xilinx; Published: 15-Sep-2003; Publisher: Altium Limited; HelpURL: http://toolbox.xilinx.com/docsan/xilinx7/books/docs/lib/lib.pdf
pins: I (in), O (out)

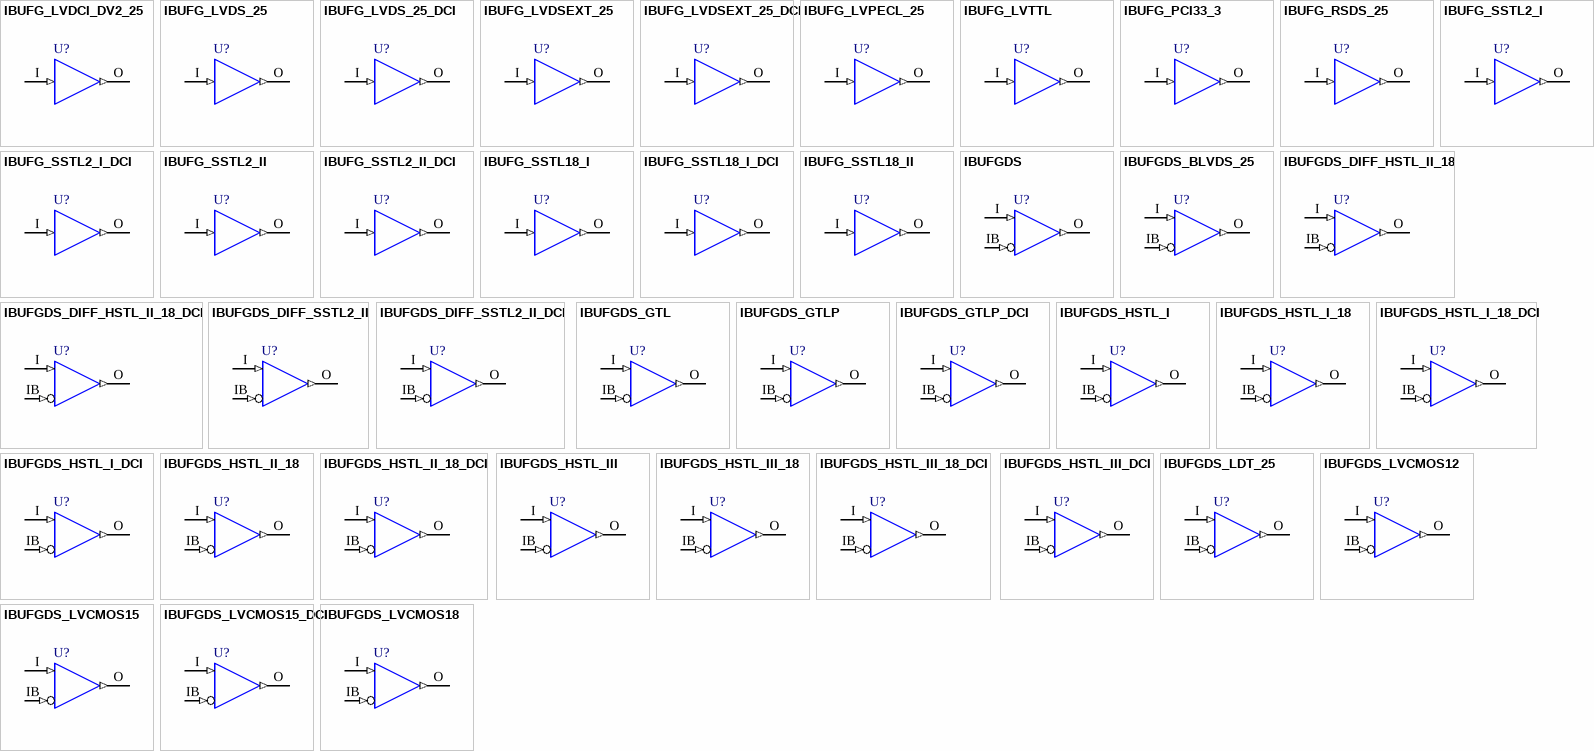
[diagram p8: symbols IBUFG_LVDCI_DV2_25 to IBUFGDS_LVCMOS18]

## IBUFG_LVDCI_DV2_25
designator U?
Dedicated Input Buffer with LVDCI_DV2_25 I/O Interface; FPGAVendor: Xilinx; Published: 15-Sep-2003; Publisher: Altium Limited; HelpURL: http://toolbox.xilinx.com/docsan/xilinx7/books/docs/lib/lib.pdf
pins: I (in), O (out)

## IBUFG_LVDS_25
designator U?
Dedicated Input Clocl Buffer using the Selectable I/O Interface standard; FPGAVendor: Xilinx; Published: 15-Sep-2008; Publisher: Altium Limited; HelpURL: http://www.xilinx.com/support/documentation/data_sheets/ds099.pdf
pins: I (in), O (out)

## IBUFG_LVDS_25_DCI
designator U?
Dedicated Input Clocl Buffer using the Selectable I/O Interface standard; FPGAVendor: Xilinx; Published: 15-Sep-2008; Publisher: Altium Limited; HelpURL: http://www.xilinx.com/support/documentation/data_sheets/ds099.pdf
pins: I (in), O (out)

## IBUFG_LVDSEXT_25
designator U?
Dedicated Input Clocl Buffer using the Selectable I/O Interface standard; FPGAVendor: Xilinx; Published: 15-Sep-2008; Publisher: Altium Limited; HelpURL: http://www.xilinx.com/support/documentation/data_sheets/ds099.pdf
pins: I (in), O (out)

## IBUFG_LVDSEXT_25_DCI
designator U?
Dedicated Input Clocl Buffer using the Selectable I/O Interface standard; FPGAVendor: Xilinx; Published: 15-Sep-2008; Publisher: Altium Limited; HelpURL: http://www.xilinx.com/support/documentation/data_sheets/ds099.pdf
pins: I (in), O (out)

## IBUFG_LVPECL_25
designator U?
Dedicated Input Clocl Buffer using the Selectable I/O Interface standard; FPGAVendor: Xilinx; Published: 15-Sep-2008; Publisher: Altium Limited; HelpURL: http://www.xilinx.com/support/documentation/data_sheets/ds099.pdf
pins: I (in), O (out)

## IBUFG_LVTTL
designator U?
Dedicated Input Clocl Buffer using the Selectable I/O Interface standard; FPGAVendor: Xilinx; Published: 15-Sep-2008; Publisher: Altium Limited; HelpURL: http://www.xilinx.com/support/documentation/data_sheets/ds099.pdf
pins: I (in), O (out)

## IBUFG_PCI33_3
designator U?
Dedicated Input Clocl Buffer using the Selectable I/O Interface standard; FPGAVendor: Xilinx; Published: 15-Sep-2008; Publisher: Altium Limited; HelpURL: http://www.xilinx.com/support/documentation/data_sheets/ds099.pdf
pins: I (in), O (out)

## IBUFG_RSDS_25
designator U?
Dedicated Input Clocl Buffer using the Selectable I/O Interface standard; FPGAVendor: Xilinx; Published: 15-Sep-2008; Publisher: Altium Limited; HelpURL: http://www.xilinx.com/support/documentation/data_sheets/ds099.pdf
pins: I (in), O (out)

## IBUFG_SSTL2_I
designator U?
Dedicated Input Buffer with SSTL2_I I/O Interface; FPGAVendor: Xilinx; Published: 15-Sep-2003; Publisher: Altium Limited; HelpURL: http://toolbox.xilinx.com/docsan/xilinx7/books/docs/lib/lib.pdf
pins: I (in), O (out)

## IBUFG_SSTL2_I_DCI
designator U?
Dedicated Input Buffer with SSTL2_I_DCI I/O Interface; FPGAVendor: Xilinx; Published: 15-Sep-2003; Publisher: Altium Limited; HelpURL: http://toolbox.xilinx.com/docsan/xilinx7/books/docs/lib/lib.pdf
pins: I (in), O (out)

## IBUFG_SSTL2_II
designator U?
Dedicated Input Buffer with SSTL2_II I/O Interface; FPGAVendor: Xilinx; Published: 15-Sep-2003; Publisher: Altium Limited; HelpURL: http://toolbox.xilinx.com/docsan/xilinx7/books/docs/lib/lib.pdf
pins: I (in), O (out)

## IBUFG_SSTL2_II_DCI
designator U?
Dedicated Input Buffer with SSTL2_II_DCI I/O Interface; FPGAVendor: Xilinx; Published: 15-Sep-2003; Publisher: Altium Limited; HelpURL: http://toolbox.xilinx.com/docsan/xilinx7/books/docs/lib/lib.pdf
pins: I (in), O (out)

## IBUFG_SSTL18_I
designator U?
Dedicated Input Buffer with SSTL18_I I/O Interface; FPGAVendor: Xilinx; Published: 15-Sep-2003; Publisher: Altium Limited; HelpURL: http://toolbox.xilinx.com/docsan/xilinx7/books/docs/lib/lib.pdf
pins: I (in), O (out)

## IBUFG_SSTL18_I_DCI
designator U?
Dedicated Input Buffer with SSTL18_I_DCI I/O Interface; FPGAVendor: Xilinx; Published: 15-Sep-2003; Publisher: Altium Limited; HelpURL: http://toolbox.xilinx.com/docsan/xilinx7/books/docs/lib/lib.pdf
pins: I (in), O (out)

## IBUFG_SSTL18_II
designator U?
Dedicated Input Buffer with SSTL18_II I/O Interface; FPGAVendor: Xilinx; Published: 15-Sep-2003; Publisher: Altium Limited; HelpURL: http://toolbox.xilinx.com/docsan/xilinx7/books/docs/lib/lib.pdf
pins: I (in), O (out)

## IBUFGDS
designator U?
Dedicated Differential Signaling Input Buffer with Selectable I/O Interface; FPGAVendor: Xilinx; Published: 20-May-2005; Publisher: Altium Limited; HelpURL: http://toolbox.xilinx.com/docsan/xilinx7/books/docs/lib/lib.pdf
pins: I (in), IB (in), O (out)

## IBUFGDS_BLVDS_25
designator U?
Dedicated Differential Signaling Input Buffer with Selectable I/O Interface; FPGAVendor: Xilinx; Published: 15-Sep-2008; Publisher: Altium Limited; HelpURL: http://www.xilinx.com/support/documentation/data_sheets/ds099.pdf
pins: I (in), IB (in), O (out)

## IBUFGDS_DIFF_HSTL_II_18
designator U?
Dedicated Differential Signaling Input Buffer with Selectable I/O Interface; FPGAVendor: Xilinx; Published: 15-Sep-2008; Publisher: Altium Limited; HelpURL: http://www.xilinx.com/support/documentation/data_sheets/ds099.pdf
pins: I (in), IB (in), O (out)

## IBUFGDS_DIFF_HSTL_II_18_DCI
designator U?
Dedicated Differential Signaling Input Buffer with Selectable I/O Interface; FPGAVendor: Xilinx; Published: 15-Sep-2008; Publisher: Altium Limited; HelpURL: http://www.xilinx.com/support/documentation/data_sheets/ds099.pdf
pins: I (in), IB (in), O (out)

## IBUFGDS_DIFF_SSTL2_II
designator U?
Dedicated Differential Signaling Input Buffer with Selectable I/O Interface; FPGAVendor: Xilinx; Published: 15-Sep-2008; Publisher: Altium Limited; HelpURL: http://www.xilinx.com/support/documentation/data_sheets/ds099.pdf
pins: I (in), IB (in), O (out)

## IBUFGDS_DIFF_SSTL2_II_DCI
designator U?
Dedicated Differential Signaling Input Buffer with Selectable I/O Interface; FPGAVendor: Xilinx; Published: 15-Sep-2008; Publisher: Altium Limited; HelpURL: http://www.xilinx.com/support/documentation/data_sheets/ds099.pdf
pins: I (in), IB (in), O (out)

## IBUFGDS_GTL
designator U?
Dedicated Differential Signaling Input Buffer with Selectable I/O Interface; FPGAVendor: Xilinx; Published: 15-Sep-2008; Publisher: Altium Limited; HelpURL: http://www.xilinx.com/support/documentation/data_sheets/ds099.pdf
pins: I (in), IB (in), O (out)

## IBUFGDS_GTLP
designator U?
Dedicated Differential Signaling Input Buffer with Selectable I/O Interface; FPGAVendor: Xilinx; Published: 15-Sep-2008; Publisher: Altium Limited; HelpURL: http://www.xilinx.com/support/documentation/data_sheets/ds099.pdf
pins: I (in), IB (in), O (out)

## IBUFGDS_GTLP_DCI
designator U?
Dedicated Differential Signaling Input Buffer with Selectable I/O Interface; FPGAVendor: Xilinx; Published: 15-Sep-2008; Publisher: Altium Limited; HelpURL: http://www.xilinx.com/support/documentation/data_sheets/ds099.pdf
pins: I (in), IB (in), O (out)

## IBUFGDS_HSTL_I
designator U?
Dedicated Differential Signaling Input Buffer with Selectable I/O Interface; FPGAVendor: Xilinx; Published: 15-Sep-2008; Publisher: Altium Limited; HelpURL: http://www.xilinx.com/support/documentation/data_sheets/ds099.pdf
pins: I (in), IB (in), O (out)

## IBUFGDS_HSTL_I_18
designator U?
Dedicated Differential Signaling Input Buffer with Selectable I/O Interface; FPGAVendor: Xilinx; Published: 15-Sep-2008; Publisher: Altium Limited; HelpURL: http://www.xilinx.com/support/documentation/data_sheets/ds099.pdf
pins: I (in), IB (in), O (out)

## IBUFGDS_HSTL_I_18_DCI
designator U?
Dedicated Differential Signaling Input Buffer with Selectable I/O Interface; FPGAVendor: Xilinx; Published: 15-Sep-2008; Publisher: Altium Limited; HelpURL: http://www.xilinx.com/support/documentation/data_sheets/ds099.pdf
pins: I (in), IB (in), O (out)

## IBUFGDS_HSTL_I_DCI
designator U?
Dedicated Differential Signaling Input Buffer with Selectable I/O Interface; FPGAVendor: Xilinx; Published: 15-Sep-2008; Publisher: Altium Limited; HelpURL: http://www.xilinx.com/support/documentation/data_sheets/ds099.pdf
pins: I (in), IB (in), O (out)

## IBUFGDS_HSTL_II_18
designator U?
Dedicated Differential Signaling Input Buffer with Selectable I/O Interface; FPGAVendor: Xilinx; Published: 15-Sep-2008; Publisher: Altium Limited; HelpURL: http://www.xilinx.com/support/documentation/data_sheets/ds099.pdf
pins: I (in), IB (in), O (out)

## IBUFGDS_HSTL_II_18_DCI
designator U?
Dedicated Differential Signaling Input Buffer with Selectable I/O Interface; FPGAVendor: Xilinx; Published: 15-Sep-2008; Publisher: Altium Limited; HelpURL: http://www.xilinx.com/support/documentation/data_sheets/ds099.pdf
pins: I (in), IB (in), O (out)

## IBUFGDS_HSTL_III
designator U?
Dedicated Differential Signaling Input Buffer with Selectable I/O Interface; FPGAVendor: Xilinx; Published: 15-Sep-2008; Publisher: Altium Limited; HelpURL: http://www.xilinx.com/support/documentation/data_sheets/ds099.pdf
pins: I (in), IB (in), O (out)

## IBUFGDS_HSTL_III_18
designator U?
Dedicated Differential Signaling Input Buffer with Selectable I/O Interface; FPGAVendor: Xilinx; Published: 15-Sep-2008; Publisher: Altium Limited; HelpURL: http://www.xilinx.com/support/documentation/data_sheets/ds099.pdf
pins: I (in), IB (in), O (out)

## IBUFGDS_HSTL_III_18_DCI
designator U?
Dedicated Differential Signaling Input Buffer with Selectable I/O Interface; FPGAVendor: Xilinx; Published: 15-Sep-2008; Publisher: Altium Limited; HelpURL: http://www.xilinx.com/support/documentation/data_sheets/ds099.pdf
pins: I (in), IB (in), O (out)

## IBUFGDS_HSTL_III_DCI
designator U?
Dedicated Differential Signaling Input Buffer with Selectable I/O Interface; FPGAVendor: Xilinx; Published: 15-Sep-2008; Publisher: Altium Limited; HelpURL: http://www.xilinx.com/support/documentation/data_sheets/ds099.pdf
pins: I (in), IB (in), O (out)

## IBUFGDS_LDT_25
designator U?
Dedicated Differential Signaling Input Buffer with LDT_25 I/O Interface; FPGAVendor: Xilinx; Published: 15-Sep-2003; Publisher: Altium Limited; HelpURL: http://toolbox.xilinx.com/docsan/xilinx7/books/docs/lib/lib.pdf
pins: I (in), IB (in), O (out)

## IBUFGDS_LVCMOS12
designator U?
Dedicated Differential Signaling Input Buffer with Selectable I/O Interface; FPGAVendor: Xilinx; Published: 15-Sep-2008; Publisher: Altium Limited; HelpURL: http://www.xilinx.com/support/documentation/data_sheets/ds099.pdf
pins: I (in), IB (in), O (out)

## IBUFGDS_LVCMOS15
designator U?
Dedicated Differential Signaling Input Buffer with Selectable I/O Interface; FPGAVendor: Xilinx; Published: 15-Sep-2008; Publisher: Altium Limited; HelpURL: http://www.xilinx.com/support/documentation/data_sheets/ds099.pdf
pins: I (in), IB (in), O (out)

## IBUFGDS_LVCMOS15_DCI
designator U?
Dedicated Differential Signaling Input Buffer with Selectable I/O Interface; FPGAVendor: Xilinx; Published: 15-Sep-2008; Publisher: Altium Limited; HelpURL: http://www.xilinx.com/support/documentation/data_sheets/ds099.pdf
pins: I (in), IB (in), O (out)

## IBUFGDS_LVCMOS18
designator U?
Dedicated Differential Signaling Input Buffer with Selectable I/O Interface; FPGAVendor: Xilinx; Published: 15-Sep-2008; Publisher: Altium Limited; HelpURL: http://www.xilinx.com/support/documentation/data_sheets/ds099.pdf
pins: I (in), IB (in), O (out)

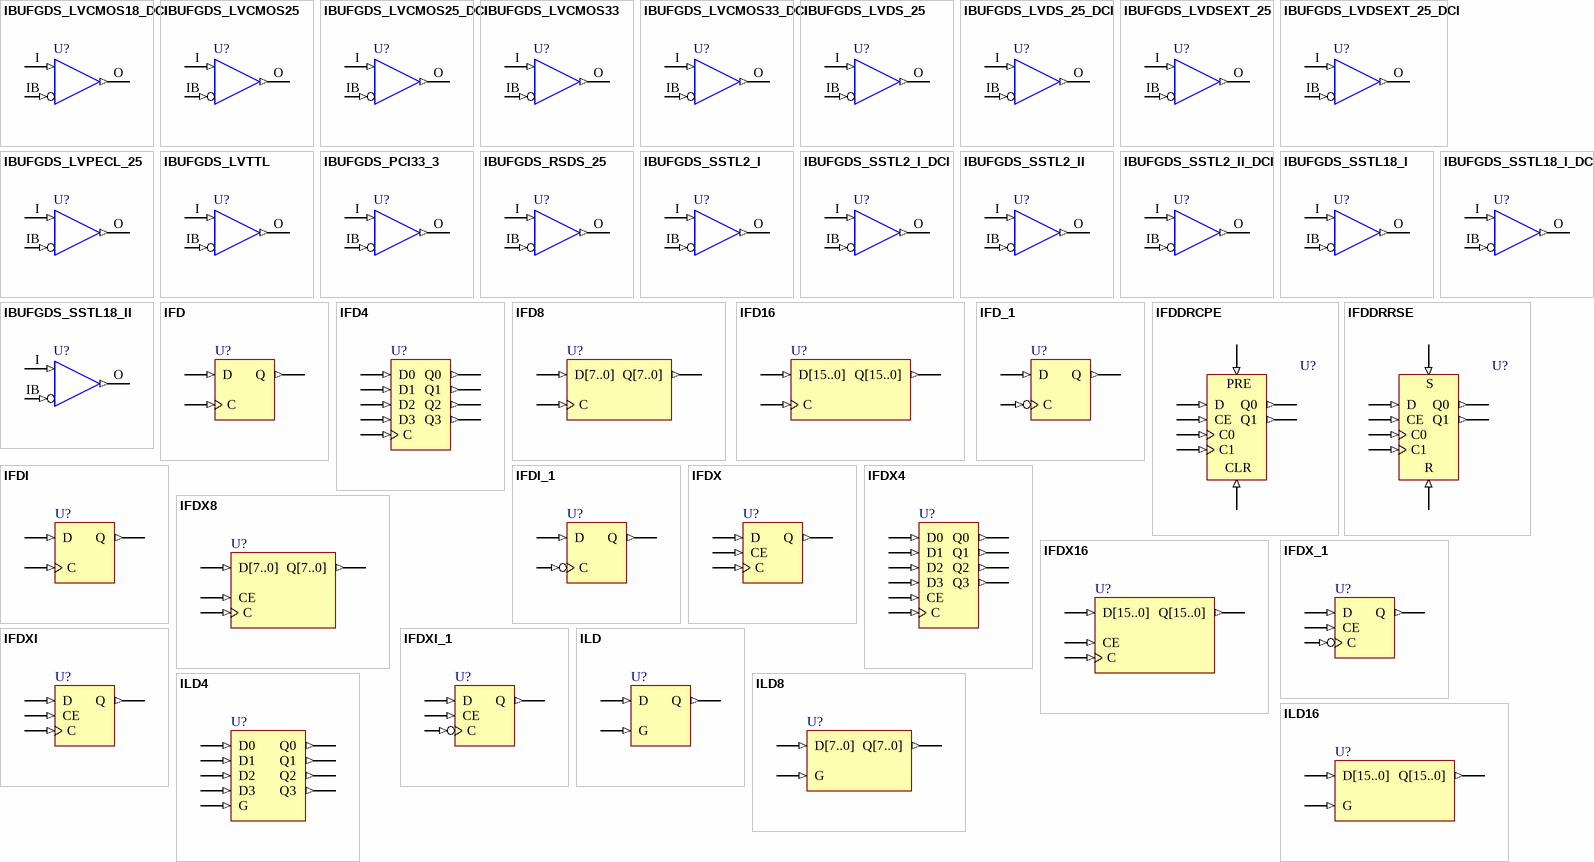
[diagram p9: symbols IBUFGDS_LVCMOS18_DCI to ILD16]

## IBUFGDS_LVCMOS18_DCI
designator U?
Dedicated Differential Signaling Input Buffer with Selectable I/O Interface; FPGAVendor: Xilinx; Published: 15-Sep-2008; Publisher: Altium Limited; HelpURL: http://www.xilinx.com/support/documentation/data_sheets/ds099.pdf
pins: I (in), IB (in), O (out)

## IBUFGDS_LVCMOS25
designator U?
Dedicated Differential Signaling Input Buffer with Selectable I/O Interface; FPGAVendor: Xilinx; Published: 15-Sep-2008; Publisher: Altium Limited; HelpURL: http://www.xilinx.com/support/documentation/data_sheets/ds099.pdf
pins: I (in), IB (in), O (out)

## IBUFGDS_LVCMOS25_DCI
designator U?
Dedicated Differential Signaling Input Buffer with Selectable I/O Interface; FPGAVendor: Xilinx; Published: 15-Sep-2008; Publisher: Altium Limited; HelpURL: http://www.xilinx.com/support/documentation/data_sheets/ds099.pdf
pins: I (in), IB (in), O (out)

## IBUFGDS_LVCMOS33
designator U?
Dedicated Differential Signaling Input Buffer with Selectable I/O Interface; FPGAVendor: Xilinx; Published: 15-Sep-2008; Publisher: Altium Limited; HelpURL: http://www.xilinx.com/support/documentation/data_sheets/ds099.pdf
pins: I (in), IB (in), O (out)

## IBUFGDS_LVCMOS33_DCI
designator U?
Dedicated Differential Signaling Input Buffer with Selectable I/O Interface; FPGAVendor: Xilinx; Published: 15-Sep-2008; Publisher: Altium Limited; HelpURL: http://www.xilinx.com/support/documentation/data_sheets/ds099.pdf
pins: I (in), IB (in), O (out)

## IBUFGDS_LVDS_25
designator U?
Dedicated Differential Signaling Input Buffer with LVDS_25 I/O Interface; FPGAVendor: Xilinx; Published: 15-Sep-2003; Publisher: Altium Limited; HelpURL: http://toolbox.xilinx.com/docsan/xilinx7/books/docs/lib/lib.pdf
pins: I (in), IB (in), O (out)

## IBUFGDS_LVDS_25_DCI
designator U?
Dedicated Differential Signaling Input Buffer with LVDS_25_DCI I/O Interface; FPGAVendor: Xilinx; Published: 15-Sep-2003; Publisher: Altium Limited; HelpURL: http://toolbox.xilinx.com/docsan/xilinx7/books/docs/lib/lib.pdf
pins: I (in), IB (in), O (out)

## IBUFGDS_LVDSEXT_25
designator U?
Dedicated Differential Signaling Input Buffer with LVDSEXT_25 I/O Interface; FPGAVendor: Xilinx; Published: 15-Sep-2003; Publisher: Altium Limited; HelpURL: http://toolbox.xilinx.com/docsan/xilinx7/books/docs/lib/lib.pdf
pins: I (in), IB (in), O (out)

## IBUFGDS_LVDSEXT_25_DCI
designator U?
Dedicated Differential Signaling Input Buffer with LVDSEXT_25_DCI I/O Interface; FPGAVendor: Xilinx; Published: 15-Sep-2003; Publisher: Altium Limited; HelpURL: http://toolbox.xilinx.com/docsan/xilinx7/books/docs/lib/lib.pdf
pins: I (in), IB (in), O (out)